# EAGLE library part 13P/ISO_KFZDOSE (library ISO11446)
Steckdose 13-polig / 12 V
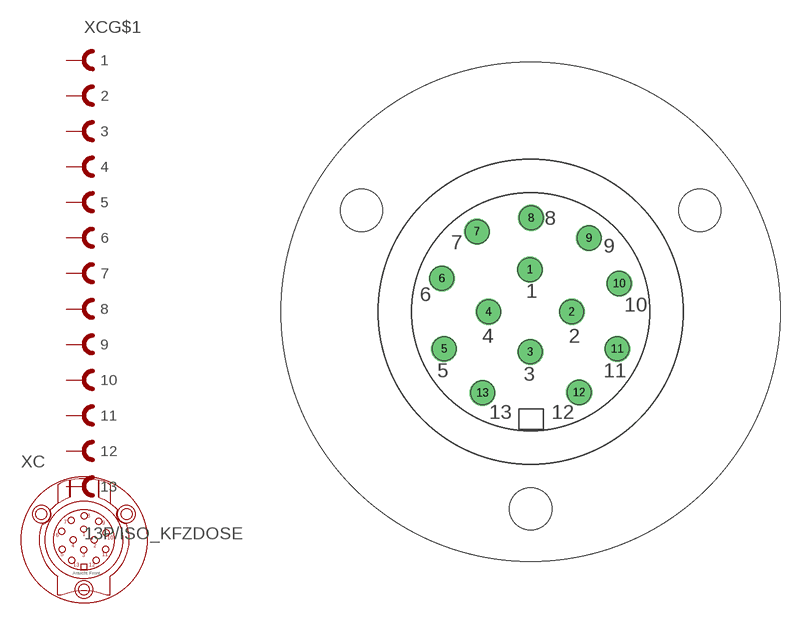
[diagram p0: symbol with the pads of 13P/ISO_KFZDOSE; footprint 13P/ISO_KFZDOSE]

Designator prefix XC; gates G$1=13P/ISO_KFZDOSE G$2=13P/ISO_KFZDOSE_MECHSYMBOL

## 13P/ISO_KFZDOSE (ARTIKEL_NR: 480049; KASTL_NR: ETZXXX915015)  [13P/ISO_KFZDOSE]
1  G$1:1  pas
2  G$1:2  pas
3  G$1:3  pas
4  G$1:4  pas
5  G$1:5  pas
6  G$1:6  pas
7  G$1:7  pas
8  G$1:8  pas
9  G$1:9  pas
10  G$1:10  pas
11  G$1:11  pas
12  G$1:12  pas
13  G$1:13  pas

## Footprint 13P/ISO_KFZDOSE (pad centres in mm)
13P/24V ISO DOSE
drill 2.753 pad 3.2: 1 -0.106,6.088; 2 5.929,0; 3 -0.053,-5.797; 4 -6.088,0; 5 -12.494,-5.347; 6 -12.812,4.818; 7 -7.729,11.568; 9 8.418,10.641; 11 12.494,-5.347; 12 6.988,-11.647; 13 -6.935,-11.7
drill 2.806 pad 3.2: 8 0.079,13.553
drill 2.7 pad 3.2: 10 12.785,4.076
hole 6.1 at 0,-28.45
hole 6.1 at 24.4,14.65
hole 6.1 at -24.4,14.65